# Altium schematic symbol library SCH - MCU - STM32 - ST MICROELECTRONICS STM32L443VCTX LQFP100.SchLib: 1 symbol
Pins are listed as number, name and electrical type; pins without a type are passive.

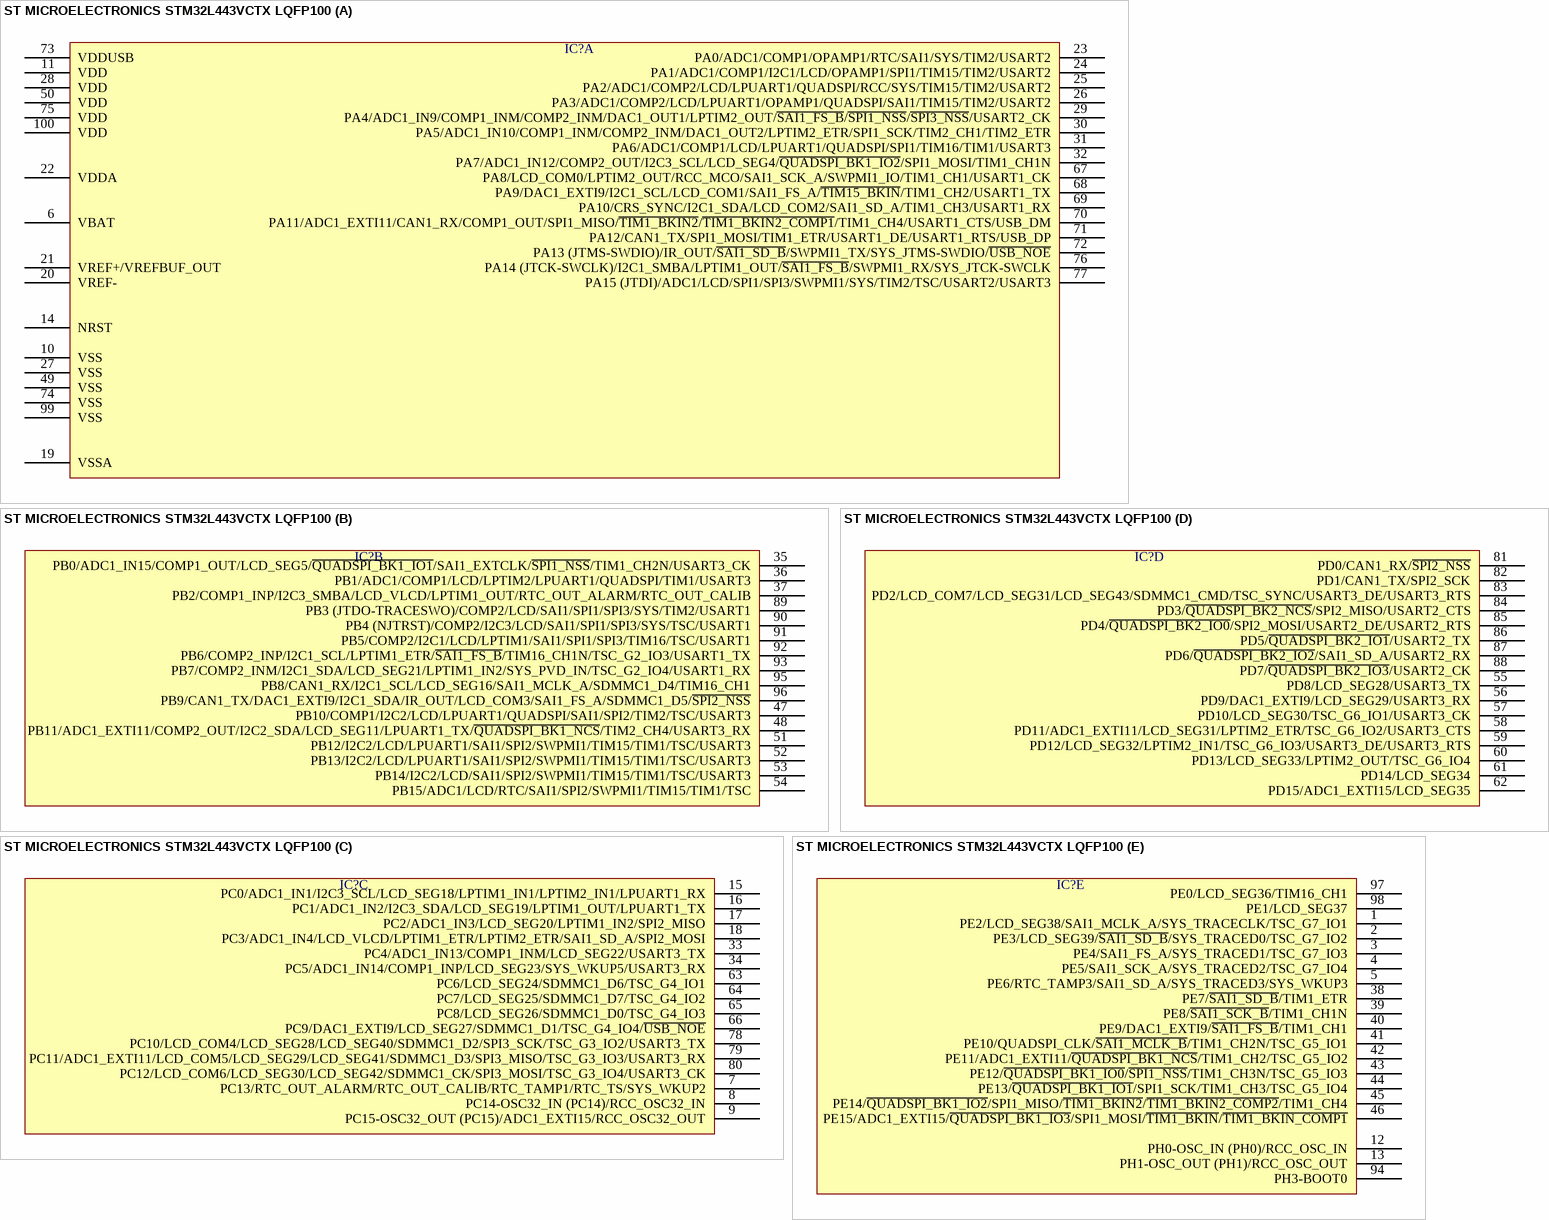
[diagram p0: symbol ST MICROELECTRONICS STM32L443VCTX LQFP100]

## ST MICROELECTRONICS STM32L443VCTX LQFP100
designator IC?  (value not drawn)
part A pins: 6 VBAT, 10 VSS, 11 VDD, 14 NRST, 19 VSSA, 20 VREF-, 21 VREF+/VREFBUF_OUT, 22 VDDA, 23 PA0/ADC1/COMP1/OPAMP1/RTC/SAI1/SYS/TIM2/USART2, 24 PA1/ADC1/COMP1/I2C1/LCD/OPAMP1/SPI1/TIM15/TIM2/USART2, 25 PA2/ADC1/COMP2/LCD/LPUART1/QUADSPI/RCC/SYS/TIM15/TIM2/USART2, 26 PA3/ADC1/COMP2/LCD/LPUART1/OPAMP1/QUADSPI/SAI1/TIM15/TIM2/USART2, 27 VSS, 28 VDD, 29 PA4/ADC1_IN9/COMP1_INM/COMP2_INM/DAC1_OUT1/LPTIM2_OUT/~{SAI1_FS_B}/~{SPI1_NSS}/~{SPI3_NSS}/USART2_CK, 30 PA5/ADC1_IN10/COMP1_INM/COMP2_INM/DAC1_OUT2/LPTIM2_ETR/SPI1_SCK/TIM2_CH1/TIM2_ETR, 31 PA6/ADC1/COMP1/LCD/LPUART1/QUADSPI/SPI1/TIM16/TIM1/USART3, 32 PA7/ADC1_IN12/COMP2_OUT/I2C3_SCL/LCD_SEG4/~{QUADSPI_BK1_IO2}/SPI1_MOSI/TIM1_CH1N, 49 VSS, 50 VDD, 67 PA8/LCD_COM0/LPTIM2_OUT/RCC_MCO/SAI1_SCK_A/SWPMI1_IO/TIM1_CH1/USART1_CK, 68 PA9/DAC1_EXTI9/I2C1_SCL/LCD_COM1/SAI1_FS_A/~{TIM15_BKIN}/TIM1_CH2/USART1_TX, 69 PA10/CRS_SYNC/I2C1_SDA/LCD_COM2/SAI1_SD_A/TIM1_CH3/USART1_RX, 70 PA11/ADC1_EXTI11/CAN1_RX/COMP1_OUT/SPI1_MISO/~{TIM1_BKIN2}/~{TIM1_BKIN2_COMP1}/TIM1_CH4/USART1_CTS/USB_DM, 71 PA12/CAN1_TX/SPI1_MOSI/TIM1_ETR/USART1_DE/USART1_RTS/USB_DP, 72 PA13 (JTMS-SWDIO)/IR_OUT/~{SAI1_SD_B}/SWPMI1_TX/SYS_JTMS-SWDIO/~{USB_NOE}, 73 VDDUSB, 74 VSS, 75 VDD, 76 PA14 (JTCK-SWCLK)/I2C1_SMBA/LPTIM1_OUT/~{SAI1_FS_B}/SWPMI1_RX/SYS_JTCK-SWCLK, 77 PA15 (JTDI)/ADC1/LCD/SPI1/SPI3/SWPMI1/SYS/TIM2/TSC/USART2/USART3, 99 VSS, 100 VDD
part B pins: 35 PB0/ADC1_IN15/COMP1_OUT/LCD_SEG5/~{QUADSPI_BK1_IO1}/SAI1_EXTCLK/~{SPI1_NSS}/TIM1_CH2N/USART3_CK, 36 PB1/ADC1/COMP1/LCD/LPTIM2/LPUART1/QUADSPI/TIM1/USART3, 37 PB2/COMP1_INP/I2C3_SMBA/LCD_VLCD/LPTIM1_OUT/RTC_OUT_ALARM/RTC_OUT_CALIB, 47 PB10/COMP1/I2C2/LCD/LPUART1/QUADSPI/SAI1/SPI2/TIM2/TSC/USART3, 48 PB11/ADC1_EXTI11/COMP2_OUT/I2C2_SDA/LCD_SEG11/LPUART1_TX/~{QUADSPI_BK1_NCS}/TIM2_CH4/USART3_RX, 51 PB12/I2C2/LCD/LPUART1/SAI1/SPI2/SWPMI1/TIM15/TIM1/TSC/USART3, 52 PB13/I2C2/LCD/LPUART1/SAI1/SPI2/SWPMI1/TIM15/TIM1/TSC/USART3, 53 PB14/I2C2/LCD/SAI1/SPI2/SWPMI1/TIM15/TIM1/TSC/USART3, 54 PB15/ADC1/LCD/RTC/SAI1/SPI2/SWPMI1/TIM15/TIM1/TSC, 89 PB3 (JTDO-TRACESWO)/COMP2/LCD/SAI1/SPI1/SPI3/SYS/TIM2/USART1, 90 PB4 (NJTRST)/COMP2/I2C3/LCD/SAI1/SPI1/SPI3/SYS/TSC/USART1, 91 PB5/COMP2/I2C1/LCD/LPTIM1/SAI1/SPI1/SPI3/TIM16/TSC/USART1, 92 PB6/COMP2_INP/I2C1_SCL/LPTIM1_ETR/~{SAI1_FS_B}/TIM16_CH1N/TSC_G2_IO3/USART1_TX, 93 PB7/COMP2_INM/I2C1_SDA/LCD_SEG21/LPTIM1_IN2/SYS_PVD_IN/TSC_G2_IO4/USART1_RX, 95 PB8/CAN1_RX/I2C1_SCL/LCD_SEG16/SAI1_MCLK_A/SDMMC1_D4/TIM16_CH1, 96 PB9/CAN1_TX/DAC1_EXTI9/I2C1_SDA/IR_OUT/LCD_COM3/SAI1_FS_A/SDMMC1_D5/~{SPI2_NSS}
part C pins: 7 PC13/RTC_OUT_ALARM/RTC_OUT_CALIB/RTC_TAMP1/RTC_TS/SYS_WKUP2, 8 PC14-OSC32_IN (PC14)/RCC_OSC32_IN, 9 PC15-OSC32_OUT (PC15)/ADC1_EXTI15/RCC_OSC32_OUT, 15 PC0/ADC1_IN1/I2C3_SCL/LCD_SEG18/LPTIM1_IN1/LPTIM2_IN1/LPUART1_RX, 16 PC1/ADC1_IN2/I2C3_SDA/LCD_SEG19/LPTIM1_OUT/LPUART1_TX, 17 PC2/ADC1_IN3/LCD_SEG20/LPTIM1_IN2/SPI2_MISO, 18 PC3/ADC1_IN4/LCD_VLCD/LPTIM1_ETR/LPTIM2_ETR/SAI1_SD_A/SPI2_MOSI, 33 PC4/ADC1_IN13/COMP1_INM/LCD_SEG22/USART3_TX, 34 PC5/ADC1_IN14/COMP1_INP/LCD_SEG23/SYS_WKUP5/USART3_RX, 63 PC6/LCD_SEG24/SDMMC1_D6/TSC_G4_IO1, 64 PC7/LCD_SEG25/SDMMC1_D7/TSC_G4_IO2, 65 PC8/LCD_SEG26/SDMMC1_D0/TSC_G4_IO3, 66 PC9/DAC1_EXTI9/LCD_SEG27/SDMMC1_D1/TSC_G4_IO4/~{USB_NOE}, 78 PC10/LCD_COM4/LCD_SEG28/LCD_SEG40/SDMMC1_D2/SPI3_SCK/TSC_G3_IO2/USART3_TX, 79 PC11/ADC1_EXTI11/LCD_COM5/LCD_SEG29/LCD_SEG41/SDMMC1_D3/SPI3_MISO/TSC_G3_IO3/USART3_RX, 80 PC12/LCD_COM6/LCD_SEG30/LCD_SEG42/SDMMC1_CK/SPI3_MOSI/TSC_G3_IO4/USART3_CK
part D pins: 55 PD8/LCD_SEG28/USART3_TX, 56 PD9/DAC1_EXTI9/LCD_SEG29/USART3_RX, 57 PD10/LCD_SEG30/TSC_G6_IO1/USART3_CK, 58 PD11/ADC1_EXTI11/LCD_SEG31/LPTIM2_ETR/TSC_G6_IO2/USART3_CTS, 59 PD12/LCD_SEG32/LPTIM2_IN1/TSC_G6_IO3/USART3_DE/USART3_RTS, 60 PD13/LCD_SEG33/LPTIM2_OUT/TSC_G6_IO4, 61 PD14/LCD_SEG34, 62 PD15/ADC1_EXTI15/LCD_SEG35, 81 PD0/CAN1_RX/~{SPI2_NSS}, 82 PD1/CAN1_TX/SPI2_SCK, 83 PD2/LCD_COM7/LCD_SEG31/LCD_SEG43/SDMMC1_CMD/TSC_SYNC/USART3_DE/USART3_RTS, 84 PD3/~{QUADSPI_BK2_NCS}/SPI2_MISO/USART2_CTS, 85 PD4/~{QUADSPI_BK2_IO0}/SPI2_MOSI/USART2_DE/USART2_RTS, 86 PD5/~{QUADSPI_BK2_IO1}/USART2_TX, 87 PD6/~{QUADSPI_BK2_IO2}/SAI1_SD_A/USART2_RX, 88 PD7/~{QUADSPI_BK2_IO3}/USART2_CK
part E pins: 1 PE2/LCD_SEG38/SAI1_MCLK_A/SYS_TRACECLK/TSC_G7_IO1, 2 PE3/LCD_SEG39/~{SAI1_SD_B}/SYS_TRACED0/TSC_G7_IO2, 3 PE4/SAI1_FS_A/SYS_TRACED1/TSC_G7_IO3, 4 PE5/SAI1_SCK_A/SYS_TRACED2/TSC_G7_IO4, 5 PE6/RTC_TAMP3/SAI1_SD_A/SYS_TRACED3/SYS_WKUP3, 12 PH0-OSC_IN (PH0)/RCC_OSC_IN, 13 PH1-OSC_OUT (PH1)/RCC_OSC_OUT, 38 PE7/~{SAI1_SD_B}/TIM1_ETR, 39 PE8/~{SAI1_SCK_B}/TIM1_CH1N, 40 PE9/DAC1_EXTI9/~{SAI1_FS_B}/TIM1_CH1, 41 PE10/QUADSPI_CLK/~{SAI1_MCLK_B}/TIM1_CH2N/TSC_G5_IO1, 42 PE11/ADC1_EXTI11/~{QUADSPI_BK1_NCS}/TIM1_CH2/TSC_G5_IO2, 43 PE12/~{QUADSPI_BK1_IO0}/~{SPI1_NSS}/TIM1_CH3N/TSC_G5_IO3, 44 PE13/~{QUADSPI_BK1_IO1}/SPI1_SCK/TIM1_CH3/TSC_G5_IO4, 45 PE14/~{QUADSPI_BK1_IO2}/SPI1_MISO/~{TIM1_BKIN2}/~{TIM1_BKIN2_COMP2}/TIM1_CH4, 46 PE15/ADC1_EXTI15/~{QUADSPI_BK1_IO3}/SPI1_MOSI/~{TIM1_BKIN}/~{TIM1_BKIN_COMP1}, 94 PH3-BOOT0, 97 PE0/LCD_SEG36/TIM16_CH1, 98 PE1/LCD_SEG37